# Altium schematic symbol library DCP.SchLib: 1 symbol
Pins are listed as number, name and electrical type; pins without a type are passive.

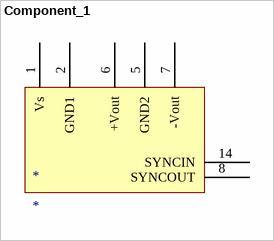
[diagram p0: symbol Component_1]

## Component_1
designator *
pins: 1 Vs, 2 GND1, 5 GND2, 6 +Vout, 7 -Vout, 8 SYNCOUT, 14 SYNCIN